# Altium footprint library Connectors.PcbLib: 1 footprints
Each footprint in its own frame and in the unit in brackets; x right, y up, seen from the top. Pads: shape width x height; smd on the part's side, far side on the other; paste and mask are expansions set on the pad; w line width, h text height; cw(c..) or ccw(c..) is an arc to the next point about the centre after c.
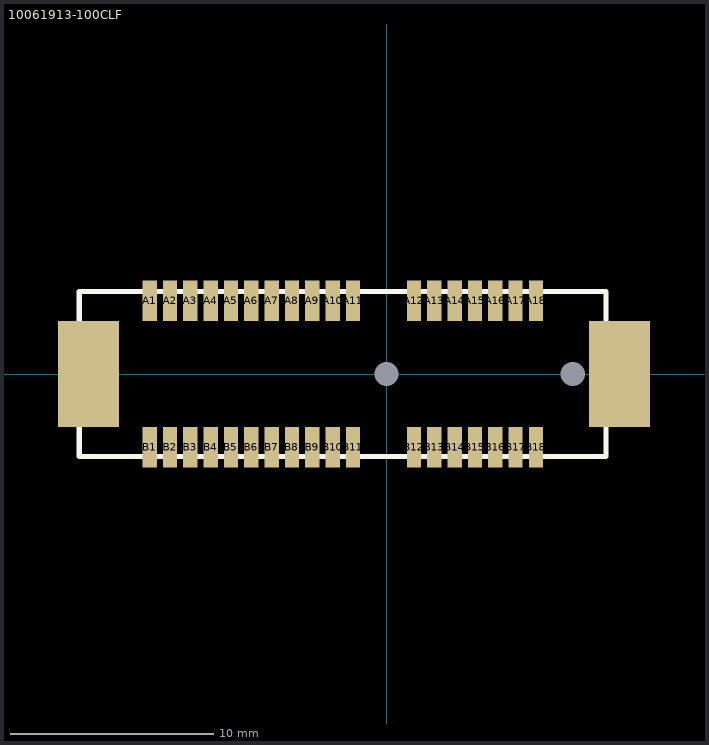
[diagram p0: the footprint, top view; thin cyan lines are the x and y axes]

## 10061913-100CLF [mm] "CONN PCI EXPRESS 36POS SMD"
pads (40):
  rect 0.7x2 smd: A1(-11.65,3.6) A2(-10.65,3.6) A3(-9.65,3.6) A4(-8.65,3.6) A5(-7.65,3.6) A6(-6.65,3.6) A7(-5.65,3.6) A8(-4.65,3.6) A9(-3.65,3.6) A10(-2.65,3.6) A11(-1.65,3.6) A12(1.35,3.6) A13(2.35,3.6) A14(3.35,3.6) A15(4.35,3.6) A16(5.35,3.6) A17(6.35,3.6) A18(7.35,3.6) B1(-11.65,-3.6) B2(-10.65,-3.6) B3(-9.65,-3.6) B4(-8.65,-3.6) B5(-7.65,-3.6) B6(-6.65,-3.6) B7(-5.65,-3.6) B8(-4.65,-3.6) B9(-3.65,-3.6) B10(-2.65,-3.6) B11(-1.65,-3.6) B12(1.35,-3.6) B13(2.35,-3.6) B14(3.35,-3.6) B15(4.35,-3.6) B16(5.35,-3.6) B17(6.35,-3.6) B18(7.35,-3.6)
  rect 3x5.2 smd: ""(-14.65,0) ""(11.45,0)
  round 0 hole 1.2: ""(0,0) ""(9.15,0)
Top Overlay:
  lines w0.254: -15.113,-4.064 10.795,-4.064 10.795,4.064 -15.113,4.064 -15.113,-4.064
3D body: height 11.51, standoff -0.74, extent -15.621,-5.08 11.379,4.09